# EAGLE library part AS-ITM-00161 (library tinycircuits)
IC ADC 16-BIT I2C PROGBL 10-MSOP
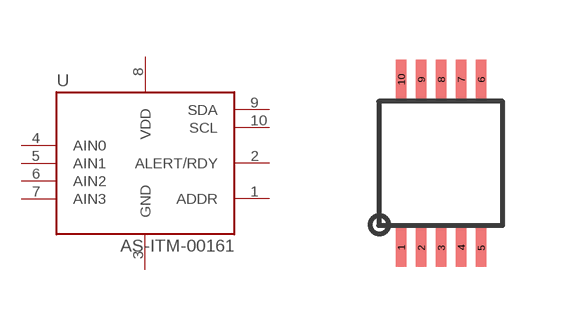
[diagram p72: symbol with the pads of S-PDSO-G10; footprint S-PDSO-G10]

Designator prefix U

## AS-ITM-00161 (PARTNO: AS-ITM-00161; VALUE: ADS1115IDGST)  [S-PDSO-G10]
1  ADDR
2  ALERT/RDY
3  GND
4  AIN0
5  AIN1
6  AIN2
7  AIN3
8  VDD
9  SDA
10  SCL

## Footprint S-PDSO-G10 (pad centres in mm)
smd 0.27 x 0.975: 1 -0.94,-2.05; 2 -0.44,-2.05; 3 0.06,-2.05; 4 0.56,-2.05; 5 1.06,-2.05; 6 1.06,2.15; 7 0.56,2.15; 8 0.06,2.15; 9 -0.44,2.15; 10 -0.94,2.15